# Altium schematic symbol library SCH - POWER - SWITCHMODE - TI TPS51123A_RGE_24.SchLib: 1 symbol
Pins are listed as number, name and electrical type; pins without a type are passive.

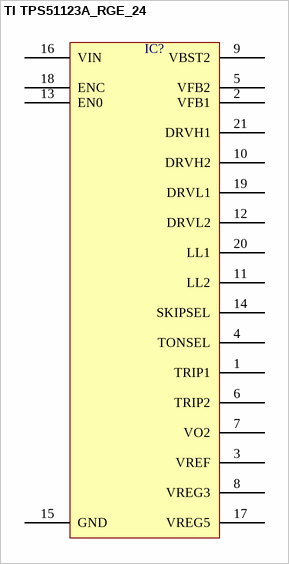
[diagram p0: symbol TI TPS51123A_RGE_24]

## TI TPS51123A_RGE_24
designator IC?  (value not drawn)
pins: 1 TRIP1, 2 VFB1, 3 VREF, 4 TONSEL, 5 VFB2, 6 TRIP2, 7 VO2, 8 VREG3, 9 VBST2, 10 DRVH2, 11 LL2, 12 DRVL2, 13 EN0, 14 SKIPSEL, 15 GND, 16 VIN, 17 VREG5, 18 ENC, 19 DRVL1, 20 LL1, 21 DRVH1